# Altium schematic symbol library M20-7910242R.SchLib: 2 symbols
Pins are listed as number, name and electrical type; pins without a type are passive.

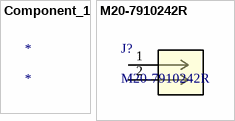
[diagram p0: symbols Component_1 to M20-7910242R]

## Component_1
designator *

## M20-7910242R
designator J?
No Description Available; Mfr_Name: Harwin; Copyright: Copyright (C) 2023 Ultra Librarian. All rights reserved.; Manufacturer_Part_Number: M20-7910242R; RefDes: RefDes; Type: DEV
footprint CONN2_910242R_HRW
pins: 1, 2